# Altium schematic symbol library LMR36015FBRNX.Schlib: 1 symbol
Pins are listed as number, name and electrical type; pins without a type are passive.

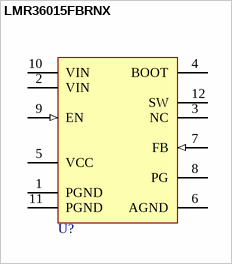
[diagram p0: symbol LMR36015FBRNX]

## LMR36015FBRNX
designator U?
60V input, 1.5Amp Switching Voltage Regulator
pins: 1 PGND (power), 2 VIN (power), 3 NC, 4 BOOT, 5 VCC (power), 6 AGND (power), 7 FB (in), 8 PG (oc), 9 EN (in), 10 VIN (power), 11 PGND (power), 12 SW (power)